# Altium footprint library Displays.PcbLib: 11 footprints
Each footprint in its own frame and in the unit in brackets; x right, y up, seen from the top. Pads: shape width x height; smd on the part's side, far side on the other; paste and mask are expansions set on the pad; w line width, h text height; cw(c..) or ccw(c..) is an arc to the next point about the centre after c.
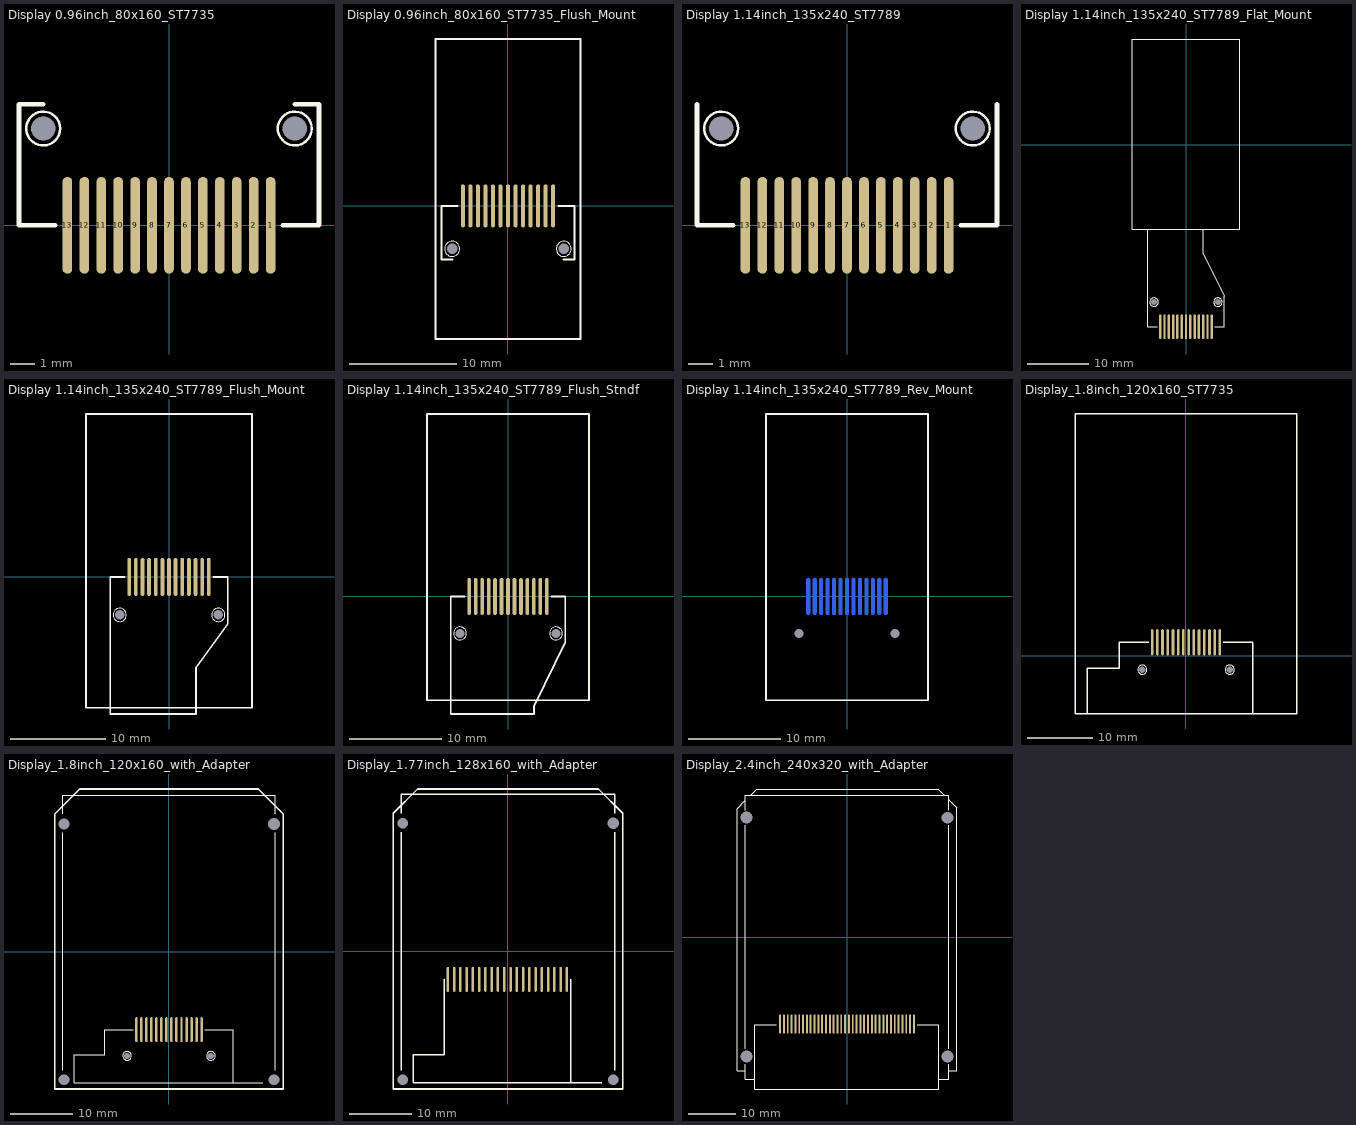
[diagram p0: the footprints below, top view; thin cyan lines are the x and y axes]

## Display 0.96inch_80x160_ST7735 [mm]
height 3
pads (15):
  oval 0.4x4 smd: 1(4.2,0) 2(3.5,0) 3(2.8,0) 4(2.1,0) 5(1.4,0) 6(0.7,0) 7(0,0) 8(-0.7,0) 9(-1.4,0) 10(-2.1,0) 11(-2.8,0) 12(-3.5,0) 13(-4.2,0)
  round 0 hole 1 unplated: ""(-5.2,4) ""(5.2,4)
Top Overlay:
  circle w0.1: c-5.2,4 r0.7
  circle w0.1: c5.2,4 r0.7
  lines w0.2: -5.2,5 -6.2,5 -6.2,0 -4.7,0 ; 4.7,0 6.2,0 6.2,5 5.2,5

## Display 0.96inch_80x160_ST7735_Flush_Mount [mm]
height 3
pads (15):
  oval 0.4x4 smd: 1(4.2,0) 2(3.5,0) 3(2.8,0) 4(2.1,0) 5(1.4,0) 6(0.7,0) 7(0,0) 8(-0.7,0) 9(-1.4,0) 10(-2.1,0) 11(-2.8,0) 12(-3.5,0) 13(-4.2,0)
  round 0 hole 1 unplated: ""(-5.2,-4) ""(5.2,-4)
Top Overlay:
  circle w0.1: c5.2,-4 r0.7
  circle w0.1: c-5.2,-4 r0.7
  lines w0.2: -5.2,-5 -6.2,-5 -6.2,0 -4.7,0 ; 4.7,0 6.2,0 6.2,-5 5.2,-5 ; -6.75,-12.4 6.75,-12.4 6.75,15.55 -6.75,15.55 -6.75,-12.4
3D body: height 1.95, standoff 1, extent -5.4,-7.8 5.4,13.9
3D body: height 1.94, standoff 0.5, extent -6.75,-12.4 6.75,15.55

## Display 1.14inch_135x240_ST7789 [mm]
height 3
pads (15):
  oval 0.4x4 smd: 1(4.2,0) 2(3.5,0) 3(2.8,0) 4(2.1,0) 5(1.4,0) 6(0.7,0) 7(0,0) 8(-0.7,0) 9(-1.4,0) 10(-2.1,0) 11(-2.8,0) 12(-3.5,0) 13(-4.2,0)
  round 0 hole 1 unplated: ""(-5.2,4) ""(5.2,4)
Top Overlay:
  circle w0.1: c-5.2,4 r0.7
  circle w0.1: c5.2,4 r0.7
  lines w0.2: -6.2,5 -6.2,0 -4.7,0 ; 4.7,0 6.2,0 6.2,5

## Display 1.14inch_135x240_ST7789_Flat_Mount [mm]
height 3
pads (15):
  oval 0.4x4 smd: 1(4.2,-29.663) 2(3.5,-29.663) 3(2.8,-29.663) 4(2.1,-29.663) 5(1.4,-29.663) 6(0.7,-29.663) 7(0,-29.663) 8(-0.7,-29.663) 9(-1.4,-29.663) 10(-2.1,-29.663) 11(-2.8,-29.663) 12(-3.5,-29.663) 13(-4.2,-29.663)
  round 0 hole 1 unplated: ""(-5.2,-25.663) ""(5.2,-25.663)
Top Overlay:
  circle w0.1: c-5.2,-25.663 r0.7
  circle w0.1: c5.2,-25.663 r0.7
  lines w0.2: -6.2,-13.8 -6.2,-29.663 -4.7,-29.663 ; 2.834,-13.8 2.834,-17.74 6.2,-24.703 6.2,-29.663 4.7,-29.663 ; -8.776,-13.8 8.776,-13.8 8.776,17.2 -8.776,17.2 -8.776,-13.8
3D body "1.14 TFT IPS - 13P - Flat Mount.stp": height 1.37, standoff 0, extent -8.776,-29.663 8.776,17.2

## Display 1.14inch_135x240_ST7789_Flush_Mount [mm]
height 3
pads (15):
  oval 0.4x4 smd: 1(4.2,0) 2(3.5,0) 3(2.8,0) 4(2.1,0) 5(1.4,0) 6(0.7,0) 7(0,0) 8(-0.7,0) 9(-1.4,0) 10(-2.1,0) 11(-2.8,0) 12(-3.5,0) 13(-4.2,0)
  round 0 hole 1 unplated: ""(-5.2,-4) ""(5.2,-4)
Top Overlay:
  circle w0.1: c-5.2,-4 r0.7
  circle w0.1: c5.2,-4 r0.7
  lines w0.2: -4.7,0 -6.2,0 -6.2,-14.46 2.834,-14.46 2.834,-9.61 6.2,-4.96 6.2,0 4.7,0 ; -8.776,-13.8 8.776,-13.8 8.776,17.2 -8.776,17.2 -8.776,-13.8
3D body "1.14 TFT IPS - 13P - Flat Flush Mount.stp": height 1.37, standoff -0.18, extent -8.776,-14.46 8.776,17.2

## Display 1.14inch_135x240_ST7789_Flush_Stndf [mm] "With 2mm gap between display and PCB"
height 3
pads (15):
  oval 0.4x4 smd: 1(4.2,0) 2(3.5,0) 3(2.8,0) 4(2.1,0) 5(1.4,0) 6(0.7,0) 7(0,0) 8(-0.7,0) 9(-1.4,0) 10(-2.1,0) 11(-2.8,0) 12(-3.5,0) 13(-4.2,0)
  round 0 hole 1 unplated: ""(-5.2,-4) ""(5.2,-4)
Top Overlay:
  circle w0.1: c5.2,-4 r0.7
  circle w0.1: c-5.2,-4 r0.7
  lines w0.2: -4.7,0 -6.2,0 -6.2,-12.728 2.834,-12.728 2.834,-11.83 6.2,-4.96 6.2,0 4.7,0 ; -8.776,-11.24 8.776,-11.24 8.776,19.76 -8.776,19.76 -8.776,-11.24
3D body "1.14 TFT IPS - 13P - Reverse Mount.stp": height 3.37, standoff 0.17, extent -8.776,-12.728 8.776,19.76

## Display 1.14inch_135x240_ST7789_Rev_Mount [mm]
height 3
pads (15):
  oval 0.4x4 smd far side: 1(4.2,0) 2(3.5,0) 3(2.8,0) 4(2.1,0) 5(1.4,0) 6(0.7,0) 7(0,0) 8(-0.7,0) 9(-1.4,0) 10(-2.1,0) 11(-2.8,0) 12(-3.5,0) 13(-4.2,0)
  round 0 hole 1 unplated: ""(-5.2,-4) ""(5.2,-4)
Top Overlay:
  lines w0.2: -8.776,-11.24 8.776,-11.24 8.776,19.76 -8.776,19.76 -8.776,-11.24
Bottom Overlay:
  circle w0.1: c5.2,-4 r0.7
  circle w0.1: c-5.2,-4 r0.7
  lines w0.2: -4.7,0 -6.2,0 -6.2,-12.728 2.834,-12.728 2.834,-11.83 6.2,-4.96 6.2,0 4.7,0
3D body "1.14 TFT IPS - 13P - Reverse Mount.stp": height 1.37, standoff -1.83, extent -8.776,-12.728 8.776,19.76

## Display_1.8inch_120x160_ST7735 [mm]
height 3
pads (16):
  oval 0.4x4 smd: 1(5.2,2.1) 2(4.4,2.1) 3(3.6,2.1) 4(2.8,2.1) 5(2,2.1) 6(1.2,2.1) 7(0.4,2.1) 8(-0.4,2.1) 9(-1.2,2.1) 10(-2,2.1) 11(-2.8,2.1) 12(-3.6,2.1) 13(-4.4,2.1) 14(-5.2,2.1)
  round 0 hole 1 unplated: ""(-6.7,-2.1) ""(6.7,-2.1)
Top Overlay:
  circle w0.1: c-6.7,-2.1 r0.7
  circle w0.1: c6.7,-2.1 r0.7
  lines w0.2: -15.15,-8.9 -15.15,-1.9 -10.25,-1.9 -10.25,2.1 -5.725,2.1 ; 5.725,2.1 10.25,2.1 10.25,-8.875 ; -17,-8.9 17,-8.9 17,37.1 -17,37.1 -17,-8.9
3D body "LCD_1.8inch (160x120).STEP": height 4.9, standoff 2.4, extent -17,-8.85 17,37.05

## Display_1.8inch_120x160_with_Adapter [mm] "Дисплей 1.8 дюйма с адаптером-подставкой"
height 5
pads (20):
  oval 0.4x4 smd: 1(5.2,-12.45) 2(4.4,-12.45) 3(3.6,-12.45) 4(2.8,-12.45) 5(2,-12.45) 6(1.2,-12.45) 7(0.4,-12.45) 8(-0.4,-12.45) 9(-1.2,-12.45) 10(-2,-12.45) 11(-2.8,-12.45) 12(-3.6,-12.45) 13(-4.4,-12.45) 14(-5.2,-12.45)
  round 0 hole 1.7 unplated: ""(-16.8,-20.45) ""(-16.8,20.45) ""(16.8,-20.45)
  round 0 hole 1 unplated: ""(-6.7,-16.65) ""(6.7,-16.65)
  round 0 hole 1.87 unplated: ""(16.8,20.45)
Top Overlay:
  circle w0.1: c-6.7,-16.65 r0.7
  circle w0.1: c6.7,-16.65 r0.7
  lines w0.2: -17,-18.95 -17,19.05 ; -17,22.05 -17,25.05 17,25.05 17,22.05 ; -5.725,-12.45 -10.25,-12.45 -10.25,-16.45 -15.15,-16.45 -15.15,-20.95 15,-20.95 ; 5.725,-12.45 10.25,-12.45 10.25,-20.925 ; 17,-18.95 17,19.05
  lines w0.25: -18.3,-21.95 18.3,-21.95 18.3,22.05 14.3,26.05 -14.3,26.05 -18.3,22.05 -18.3,-21.95
3D body "Display_1.8inch_with_Adapter.STEP": height 4.85, standoff -1.9, extent -18.3,-21.9 18.3,26

## Display_1.77inch_128x160_with_Adapter [mm] "Дисплей 1.77 дюйма с адаптером-подставкой"
height 5
pads (24):
  oval 0.4x4 smd: 1(-9.6,-4.45) 2(-8.6,-4.45) 3(-7.6,-4.45) 4(-6.6,-4.45) 5(-5.6,-4.45) 6(-4.6,-4.45) 7(-3.6,-4.45) 8(-2.6,-4.45) 9(-1.6,-4.45) 10(-0.6,-4.45) 11(0.4,-4.45) 12(1.4,-4.45) 13(2.4,-4.45) 14(3.4,-4.45) 15(4.4,-4.45) 16(5.4,-4.45) 17(6.4,-4.45) 18(7.4,-4.45) 19(8.4,-4.45) 20(9.4,-4.45)
  round 0 hole 1.7 unplated: ""(-16.8,-20.45) ""(-16.8,20.45) ""(16.8,-20.45)
  round 0 hole 1.87 unplated: ""(16.8,20.45)
Top Overlay:
  lines w0.2: -17,-18.95 -17,19.05 ; -17,22.05 -17,25.05 17,25.05 17,22.05 ; -10.2,-4.45 -10.2,-16.45 -15.15,-16.45 -15.15,-20.95 15,-20.95 ; 10.05,-20.925 10.05,-4.45 ; 17,-18.95 17,19.05
  lines w0.25: -18.3,-21.95 18.3,-21.95 18.3,22.05 14.425,25.925 -14.425,25.925 -18.3,22.05 -18.3,-21.95
3D body "DIsplay_ST17702_w_Adapter.STEP": height 5.02, standoff -1.93, extent -18.1,-21.775 18.1,25.725

## Display_2.4inch_240x320_with_Adapter [mm] "Дисплей 2.4 дюйма T024240320-B1TMN-001 с адаптером-подставкой"
height 5
pads (40):
  oval 0.4x4 smd: 1(13.998,-18.187) 2(13.198,-18.187) 3(12.398,-18.187) 4(11.598,-18.187) 5(10.798,-18.187) 6(9.998,-18.187) 7(9.198,-18.187) 8(8.398,-18.187) 9(7.598,-18.187) 10(6.798,-18.187) 11(5.998,-18.187) 12(5.198,-18.187) 13(4.398,-18.187) 14(3.598,-18.187) 15(2.798,-18.187) 16(1.998,-18.187) 17(1.198,-18.187) 18(0.398,-18.187) 19(-0.402,-18.187) 20(-1.202,-18.187) 21(-2.002,-18.187) 22(-2.802,-18.187) 23(-3.602,-18.187) 24(-4.402,-18.187) 25(-5.202,-18.187) 26(-6.002,-18.187) 27(-6.802,-18.187) 28(-7.602,-18.187) 29(-8.402,-18.187) 30(-9.202,-18.187) 31(-10.002,-18.187) 32(-10.802,-18.187) 33(-11.602,-18.187) 34(-12.402,-18.187) 35(-13.202,-18.187) 36(-14.002,-18.187)
  round 1 hole 2.5 unplated: ""(-21.002,-24.987) ""(-20.998,25.001) ""(20.998,-25.001) ""(21.002,24.999)
Top Overlay:
  lines w0.2: -21.402,-27.987 -23.002,-27.987 -23.002,26.913 -21.302,28.613 ; -21.302,-26.587 -21.302,-29.787 -19.302,-29.787 ; -21.302,-23.387 -21.302,23.413 ; -21.302,26.513 -21.302,29.713 21.298,29.713 21.298,26.513 ; -20.202,29.713 -18.902,31.013 19.098,31.013 20.398,29.713 ; -14.802,-18.287 -19.302,-18.287 -19.302,-31.787 19.198,-31.787 19.198,-18.287 14.698,-18.287 ; 19.198,-29.787 21.298,-29.787 21.298,-26.587 ; 21.298,-27.987 22.998,-27.987 22.998,27.113 21.298,28.813 ; 21.298,-23.387 21.298,23.413
3D body "T024240320-B1TMN-001_w_board_adapter.STEP": height 6.22, standoff -1.68, extent -23.002,-29.787 22.998,31.023